# Altium footprint library Pre-Avionic-Design.PcbLib: 17 footprints (part 1 of 2)
Each footprint in its own frame and in the unit in brackets; x right, y up, seen from the top. Pads: shape width x height; smd on the part's side, far side on the other; paste and mask are expansions set on the pad; w line width, h text height; cw(c..) or ccw(c..) is an arc to the next point about the centre after c.
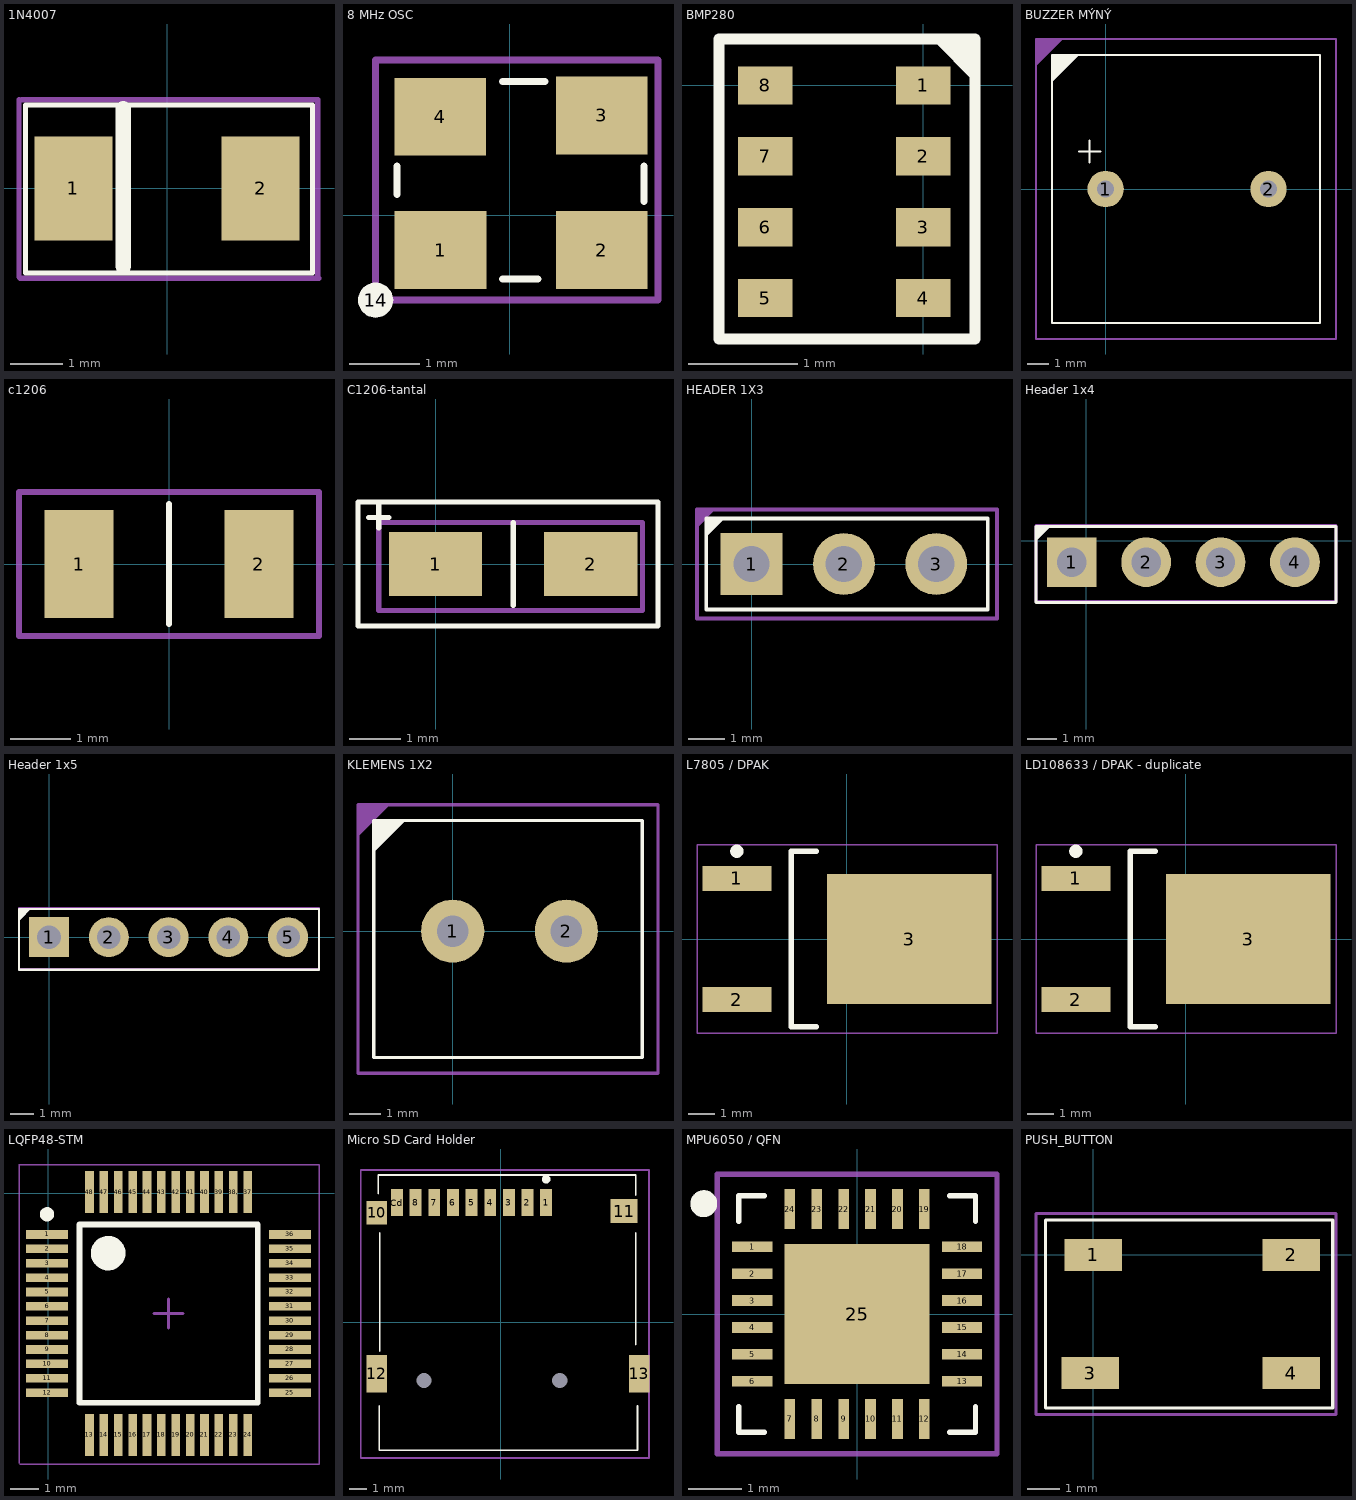
[diagram p0: the footprints below, top view; thin cyan lines are the x and y axes]

## 1N4007 [mm]
pads (2):
  rect 1.5x2 smd mask+0.05: 1(-1.8,0) 2(1.8,0)
Top Overlay:
  lines w0.1: -2.718,-1.626 2.794,-1.626 2.794,1.6 -2.718,1.6 -2.718,-1.626
  lines w0.3: -0.838,-1.499 -0.838,1.524
Mechanical 3:
  lines w0.1: -2.845,1.702 -2.845,-1.702 -2.819,-1.727 2.921,-1.727 2.896,-1.702 2.896,1.702 -2.794,1.702
3D body "User Library-Diode SMD 1N4007.step": height 2.2, standoff -0.23, extent -2.675,-1.586 2.625,1.524

## 8 MHz OSC [mm]
pads (5):
  rect 1.3x1.1 smd mask+0.05: 1(-0.981,-0.49) 2(1.303,-0.49) 3(1.303,1.417) 4(-0.986,1.401)
  round 0.5 on Top Overlay mask+0.102: 14(-1.9,-1.2)
Top Overlay:
  lines w0.1: -1.6,0.3 -1.6,0.7 ; -0.1,-0.9 0.4,-0.9 ; -0.1,1.9 0.5,1.9 ; 1.9,0.2 1.9,0.7
Mechanical 3:
  lines w0.1: -1.9,-1.2 -1.9,-1 -1.9,2 -1.9,2.2 2.1,2.2 2.1,-1.2 -1.9,-1.2
3D body "ASE3.STEP": height 1.38, standoff 0.12, extent -1.447,-0.767 1.753,1.733

## BMP280 [mm] "BMP280 / SENSÖR"
pads (8):
  rect 0.5x0.35 smd mask+0.05: 1(0,0) 2(0,-0.65) 3(0,-1.3) 4(0,-1.95) 5(-1.45,-1.95) 6(-1.45,-1.3) 7(-1.45,-0.65) 8(-1.45,0)
Top Overlay:
  region: 0.125,0.375 0.425,0.075 0.425,0.375
  lines w0.1: -1.875,-2.325 0.475,-2.325 0.475,0.425 -1.875,0.425 -1.875,-2.325
3D body "User Library-BMP280.step": height 0.95, standoff -0.01, extent -1.725,-2.225 0.275,0.275

## BUZZER MÝNÝ [mm] "BUZZER MÝNÝ 5V"
pads (2):
  round 1.7 hole 0.8 mask+0.05: 1(0,0) 2(7.6,0)
Top Overlay:
  region: -2.5,5 -1.25,6.25 -2.5,6.25
  lines w0.1: -1.25,1.75 -0.25,1.75 ; -0.75,1.25 -0.75,2.25 ; -2.5,-6.25 10,-6.25 10,6.25 -2.5,6.25 -2.5,-6.25
Mechanical 3:
  region: -3.25,5.75 -2,7 -3.25,7
  lines w0.1: -3.25,-7 10.75,-7 10.75,7 -3.25,7 -3.25,-7
3D body "cem-1205c.stp": height 9.5, standoff -4.5, extent -2.2,-5.975 9.8,6.025

## c1206 [mm]
pads (2):
  rect 1.15x1.8 smd mask+0.102: 1(-1.5,0) 2(1.5,0)
Top Overlay:
  lines w0.1: 0,-1 0,1
Mechanical 3:
  lines w0.1: -2.5,-1.2 2.5,-1.2 2.5,1.2 -2.5,1.2 -2.5,-1.2
3D body "1206CAP.step": height 1, standoff 0, extent -1.6,-0.8 1.6,0.8

## C1206-tantal [mm]
pads (2):
  rect 1.8x1.23 smd mask+0.05: 1(0,0) 2(3,0)
Top Overlay:
  lines w0.1: -1.3,0.9 -0.9,0.9 ; -1.1,0.9 -1.1,0.7 -1.1,1.2 ; 1.5,-0.8 1.5,0.8 ; -1.5,-1.2 4.3,-1.2 4.3,1.2 -1.5,1.2 -1.5,-1.2
Mechanical 3:
  lines w0.1: -1.1,-0.9 -1.1,0.8 4,0.8 4,-0.9 -1.1,-0.9
3D body "User Library-CaseA_3216-18.step": height 1.62, standoff 0.02, extent -0.1,-0.8 3.1,0.8

## HEADER 1X3 [mm] "HEADER 1X3 SERVO"
pads (3):
  rect 1.7x1.7 hole 1 mask+0.05: 1(0,0)
  round 1.7 hole 1 mask+0.05: 2(2.54,0) 3(5.08,0)
Top Overlay:
  region: -1.25,0.75 -0.75,1.25 -1.25,1.25
  lines w0.1: -1.25,-1.25 6.5,-1.25 6.5,1.25 6.25,1.25 -1.25,1.25 -1.25,-1.25
Mechanical 3:
  region: -1.5,1 -1,1.5 -1.5,1.5
  lines w0.1: -1.5,-1.5 6.75,-1.5 6.75,1.5 -1.5,1.5 -1.5,-1.5
3D body "User Library-ZL262-3SG.step": height 9.1, standoff -2.45, extent -1.25,-1.25 6.37,1.25

## Header 1x4 [mm] "Header 1x4 2.54mm"
pads (4):
  rect 1.7x1.7 hole 1 mask+0.05: 1(-0.5,-0.725)
  round 1.7 hole 1 mask+0.05: 2(2.04,-0.725) 3(4.58,-0.725) 4(7.12,-0.725)
Top Overlay:
  region: -1.725,0 -1.25,0.475 -1.25,0.5 -1.7,0.5 -1.725,0.525
  lines w0.1: -1.725,-2.1 -1.725,0.5 8.525,0.5 8.525,-2.1 -1.725,-2.1
Mechanical 3:
  lines w0.1: -1.725,-2.075 8.525,-2.075 8.525,0.525 -1.725,0.525 -1.725,-2.075
3D body "User Library-ZL262-4SG.step": height 9.1, standoff -2.45, extent -1.68,-2.05 8.48,0.45

## Header 1x5 [mm]
pads (5):
  rect 1.7x1.7 hole 1 mask+0.05: 1(0,0)
  round 1.7 hole 1 mask+0.05: 2(2.54,0) 3(5.08,0) 4(7.62,0) 5(10.16,0)
Top Overlay:
  region: -1.225,0.75 -0.75,1.225 -1.275,1.225 -1.275,0.75
  lines w0.1: -1.275,-1.375 11.475,-1.375 11.475,1.2 -1.275,1.2 -1.275,-1.375
Mechanical 3:
  lines w0.1: -1.275,-1.35 11.475,-1.35 11.475,1.225 -1.275,1.225 -1.275,-1.35
3D body "User Library-ZL262-5SG (1).step": height 9.1, standoff -2.45, extent -1.25,-1.3 11.45,1.2

## KLEMENS 1X2 [mm] "KLEMENS 1X2 3.5mm"
pads (2):
  round 2 hole 1 mask+0.05: 1(0,0) 2(3.6,0)
Top Overlay:
  region: -2.5,2.5 -1.5,3.5 -2.5,3.5
  lines w0.1: -2.5,-4 6,-4 6,3.5 -2.5,3.5 -2.5,-4
Mechanical 3:
  region: -3,3 -2,4 -3,4
  lines w0.1: -3,-4.5 -3,4 6.5,4 6.5,-4.5 -3,-4.5
3D body "terminal_blocks_a-tb350-te02.stp": height 8.9, standoff -3.29, extent -2.247,-3.6 5.747,3.4

## L7805 / DPAK [mm] "L7805 / SMD /3PÝN"
height 2.4
pads (3):
  rect 2.6x0.95 smd: 1(-4.15,2.28) 2(-4.15,-2.28)
  rect 6.2x4.9 smd: 3(2.35,0)
Top Overlay:
  circle w0.25: c-4.15,3.305 r0.125
  lines w0.2: -1.15,-3.3 -2.1,-3.3 -2.1,3.3 -1.15,3.3
Mechanical 3:
  lines w0.05: -5.65,-3.55 -5.65,3.55 5.65,3.55 5.65,-3.55 -5.65,-3.55
  lines w0.1: -0.5,0 0.5,0 ; 0,-0.5 0,0.5
3D body: height 2.4, standoff 1, extent -2.1,-3.3 4.1,3.3

## LD108633 / DPAK - duplicate [mm] "LD108633 / DPAK / 3.3V"
height 2.4
pads (3):
  rect 2.6x0.95 smd: 1(-4.15,2.28) 2(-4.15,-2.28)
  rect 6.2x4.9 smd: 3(2.35,0)
Top Overlay:
  circle w0.25: c-4.15,3.305 r0.125
  lines w0.2: -1.15,-3.3 -2.1,-3.3 -2.1,3.3 -1.15,3.3
Mechanical 3:
  lines w0.05: -5.65,-3.55 5.65,-3.55 5.65,3.55 -5.65,3.55 -5.65,-3.55
  lines w0.1: -0.5,0 0.5,0 ; 0,-0.5 0,0.5
3D body: height 2.4, standoff 1.1, extent -2.1,-3.3 4.1,3.3

## LQFP48-STM [mm] "LQFP48-STM / 48pin"
height 1.6
pads (48):
  rect 1.45x0.3 smd mask+0.05: 1(-0.034,-1.441) 2(-0.034,-1.941) 3(-0.034,-2.441) 4(-0.034,-2.941) 5(-0.034,-3.441) 6(-0.034,-3.941) 7(-0.034,-4.441) 8(-0.034,-4.941) 9(-0.034,-5.441) 10(-0.034,-5.941) 11(-0.034,-6.441) 12(-0.034,-6.941) 25(8.416,-6.941) 26(8.416,-6.441) 27(8.416,-5.941) 28(8.416,-5.441) 29(8.416,-4.941) 30(8.416,-4.441) 31(8.416,-3.941) 32(8.416,-3.441) 33(8.416,-2.941) 34(8.416,-2.441) 35(8.416,-1.941) 36(8.416,-1.441)
  rect 0.3x1.45 smd mask+0.05: 13(1.441,-8.416) 14(1.941,-8.416) 15(2.441,-8.416) 16(2.941,-8.416) 17(3.441,-8.416) 18(3.941,-8.416) 19(4.441,-8.416) 20(4.941,-8.416) 21(5.441,-8.416) 22(5.941,-8.416) 23(6.441,-8.416) 24(6.941,-8.416) 37(6.941,0.034) 38,(6.441,0.034) 39(5.941,0.034) 40(5.441,0.034) 41(4.941,0.034) 42(4.441,0.034) 43(3.941,0.034) 44(3.441,0.034) 45(2.941,0.034) 46(2.441,0.034) 47(1.941,0.034) 48(1.441,0.034)
Top Overlay:
  circle w0.25: c-0.034,-0.741 r0.125
  circle w0.6: c2.091,-2.091 r0.3
  lines w0.2: 1.091,-7.291 1.091,-1.091 7.291,-1.091 7.291,-7.291 1.091,-7.291
Mechanical 3:
  lines w0.05: -1.009,-9.391 -1.009,1.009 ; -0.975,-9.425 9.425,-9.425 9.425,0.975 -0.975,0.975
  lines w0.1: 3.691,-4.191 4.691,-4.191 ; 4.191,-4.691 4.191,-3.691
3D body "LQFP48-STM.step": height 1.6, standoff 0, extent -0.309,-8.691 8.691,0.309

## Micro SD Card Holder [mm]
pads (15):
  rect 0.7x1.6 smd paste+0 mask+0: 1(2.684,7.075) 2(1.584,7.075) 3(0.484,7.075) 4(-0.616,7.075) 5(-1.716,7.075) 6(-2.816,7.075) 7(-3.916,7.075) 8(-5.016,7.075) Cd(-6.116,7.075)
  rect 1.2x1.4 smd paste+0 mask+0: 10(-7.316,6.475)
  rect 1.6x1.4 smd paste+0 mask+0: 11(7.284,6.575)
  rect 1.2x2.2 smd paste+0 mask+0: 12(-7.316,-3.025) 13(8.184,-3.025)
  round 0 hole 0.9 unplated paste-1000 mask+0: ""(-4.516,-3.425) ""(3.484,-3.425)
Top Overlay:
  circle w0.25: c2.684,8.45 r0.125
  lines w0.1: -7.225,7.6 -7.225,8.7 7.975,8.7 7.975,7.5 ; -7.157,-4.925 -7.157,-7.548 8.075,-7.548 8.075,-4.925 ; -7.125,-1.7 -7.125,5.3 ; 7.975,-1.3 7.975,5.3
Mechanical 3:
  lines w0.1: -8.25,-8 -8.25,9 -7.75,9 8.5,9 8.75,9 8.75,-8 -8.25,-8
3D body "User Library-MEM2055-00-190-01-A_revG.step": height 1.85, standoff -0.6, extent -7.567,-7.42 8.433,7.83

## MPU6050 / QFN [mm] "QFN, 24-Leads, Body 4,00x4,00mm, Pitch 0,50mm, Thermal Pad 2,70x2,60mm, IPC Medium Density"
height 0.9
pads (25):
  rect 0.75x0.2 smd: 1(-1.95,1.25) 2(-1.95,0.75) 3(-1.95,0.25) 4(-1.95,-0.25) 5(-1.95,-0.75) 6(-1.95,-1.25) 13(1.95,-1.25) 14(1.95,-0.75) 15(1.95,-0.25) 16(1.95,0.25) 17(1.95,0.75) 18(1.95,1.25)
  rect 0.2x0.75 smd: 7(-1.25,-1.95) 8(-0.75,-1.95) 9(-0.25,-1.95) 10(0.25,-1.95) 11(0.75,-1.95) 12(1.25,-1.95) 19(1.25,1.95) 20(0.75,1.95) 21(0.25,1.95) 22(-0.25,1.95) 23(-0.75,1.95) 24(-1.25,1.95)
  rect 2.7x2.6 smd: 25(0,0)
Top Overlay:
  circle w0.25: c-2.85,2.05 r0.125
  lines w0.1: -2.2,-1.725 -2.2,-2.2 -1.725,-2.2 ; -2.2,1.725 -2.2,2.2 -1.725,2.2 ; 1.725,-2.2 2.2,-2.2 2.2,-1.725 ; 1.725,2.2 2.2,2.2 2.2,1.725
Mechanical 3:
  lines w0.1: -0.5,0 0.5,0 ; 0,-0.5 0,0.5 ; -2.6,-2.6 2.6,-2.6 2.6,2.6 -2.6,2.6 -2.6,-2.6
3D body: height 0.9, standoff 0.02, extent -2.05,-2.05 2.05,2.05

## PUSH_BUTTON [mm]
pads (4):
  rect 1.8x1 smd mask+0.05: 1(0,0) 2(6.2,0) 3(-0.1,-3.7) 4(6.2,-3.7)
Top Overlay:
  lines w0.1: -1.5,-4.8 -1.5,1.1 7.5,1.1 7.5,-4.8 -1.5,-4.8
Mechanical 3:
  lines w0.1: -1.8,-5 -1.8,1.3 -1.6,1.3 7.6,1.3 7.6,-5 -1.8,-5
3D body "User Library-4x4_SMD_Switch.step": height 1.5, standoff 0, extent -0.1,-4.4 6.3,0.8